# EAGLE library part EASYVR3 (library hasauino)
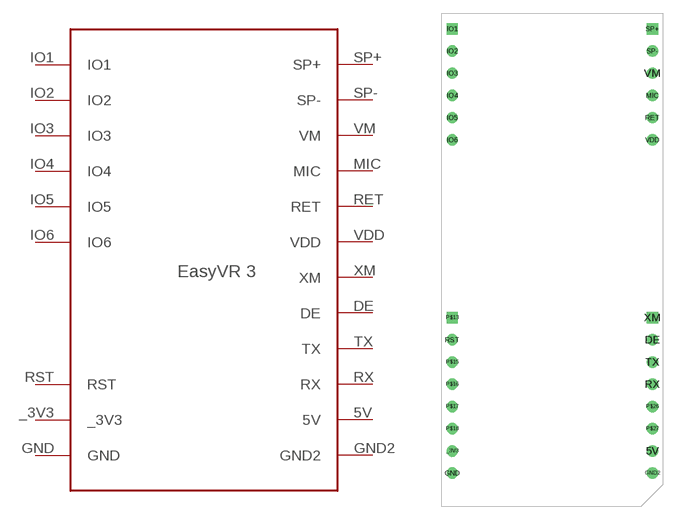
[diagram p1: symbol with the pads of EASYVR3; footprint EASYVR3]

Designator prefix -

## EASYVR3  [EASYVR3]
5V  5V  pwr
_3V3  _3V3  pwr
DE  DE  nc
GND  GND  pwr
GND2  GND2  pwr
IO1  IO1
IO2  IO2
IO3  IO3
IO4  IO4
IO5  IO5
IO6  IO6
MIC  MIC  nc
RET  RET  nc
RST  RST  in
RX  RX  in
SP+  SP+  nc
SP-  SP-  nc
TX  TX  out
VDD  VDD  pwr
VM  VM  nc
XM  XM  nc

## Footprint EASYVR3 (pad centres in mm)
drill 0.8: 5V 22.86,-48.26; _3V3 0,-48.26; DE 22.86,-35.56; GND 0,-50.8; GND2 22.86,-50.8; IO2 0,-2.54; IO3 0,-5.08; IO4 0,-7.62; IO5 0,-10.16; IO6 0,-12.7; MIC 22.86,-7.62; P$15 0,-38.1; P$16 0,-40.64; P$17 0,-43.18; P$18 0,-45.72; P$26 22.86,-43.18; P$27 22.86,-45.72; RET 22.86,-10.16; RST 0,-35.56; RX 22.86,-40.64; SP- 22.86,-2.54; TX 22.86,-38.1; VDD 22.86,-12.7; VM 22.86,-5.08
drill 0.8 square: IO1 0,0; P$13 0,-33.02; SP+ 22.86,0; XM 22.86,-33.02